# EAGLE library part 750344353 (library WE-OLSTM)
WE-OLSTM Offline Flyback Transformers Characteristics Nominal input voltage: 85–265 VAC (120–375 VDC) Operating temperature: –40 °C to +125 °C Isolation voltage: 2 kVAC up to 5 kVAC Multiple output options Options for fixed frequency or quasi-resonant mode operation Most products meet reinforced insulation Applications Offline-switch mode power supplies Especially designed for several ICs from STMicroelectronics Auxiliary power supply Home appliances Consumer electronics <https://www.we-online.com/components/media/o781306v209%20FAMILY-MID-OLSTM.jpg> Details see: www.we-online.com/en/components/products/WE-OLSTM <www.we-online.com/en/components/products/WE-OLSTM/?utm_source=eagle_model&utm_medium=description_link&utm_campaign=eisos_eagle> Created by Leviosa 2024-04-15 2024(C) Wurth Elektronik
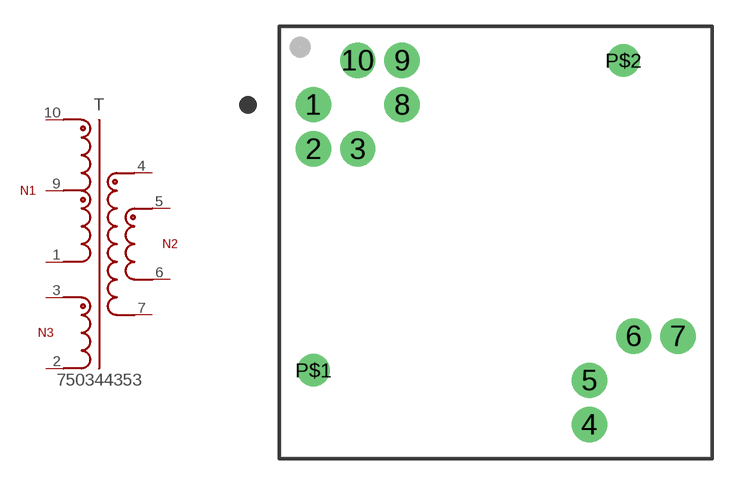
[diagram p20: symbol with the pads of WE-OLSTM_RM8_L24.64W24.64H17.32; footprint WE-OLSTM_RM8_L24.64W24.64H17.32]

Designator prefix T

## 750344353 (DATASHEET-URL: https://www.we-online.com/redexpert/spec/750344353?ae; FSWITCH: 60 - 150kHz; IOUT1: 2250mA; ISAT: 2000mA; L: 0.4mH; MOUNT: THT; N: 7.5:1:2.33; PART-NUMBER: 750344353; SIZE: RM8; VALUE: 750344353; VAUX: 12V; VIN: 90 - 265 V (AC); VOUT1: 20V; VT: 4000V(AC))  [WE-OLSTM_RM8_L24.64W24.64H17.32]
1  1  pas
2  2  pas
3  3  pas
4  4  pas
5  5  pas
6  6  pas
7  7  pas
9  9  pas
10  10  pas

## Footprint WE-OLSTM_RM8_L24.64W24.64H17.32 (pad centres in mm)
WE-OLSTM Offline Flyback Transformers for STMicroelectronics Size: RM8, THT,10Pins LXWXH=24.64X24.64X17.32mm
drill 1.35: 1 -10.45,7.91; 2 -10.45,5.37; 3 -7.91,5.37; 4 5.37,-10.45; 5 5.37,-7.91; 6 7.91,-5.37; 7 10.45,-5.37; 8 -5.37,7.91; 9 -5.37,10.45; 10 -7.91,10.45
drill 1.25: P$1 -10.45,-7.33; P$2 7.33,10.45